# EAGLE library part MCP4822 (library ic)
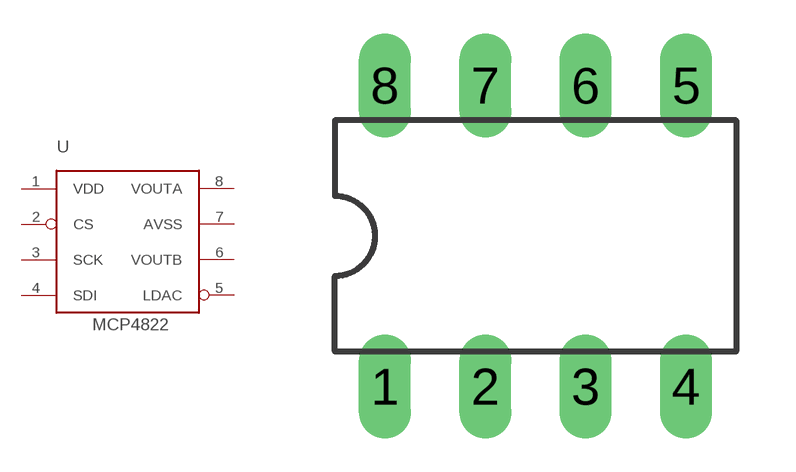
[diagram p7: symbol with the pads of 8PIN; footprint 8PIN]

Designator prefix -

## MCP4822  [8PIN]
1  VDD  pas
2  CS  pas
3  SCK  pas
4  SDI  pas
5  LDAC  pas
6  VOUTB  pas
7  AVSS  pas
8  VOUTA  pas

## Footprint 8PIN (pad centres in mm)
drill 0.813 long: 1 -3.81,-3.81; 2 -1.27,-3.81; 3 1.27,-3.81; 4 3.81,-3.81; 5 3.81,3.81; 6 1.27,3.81; 7 -1.27,3.81; 8 -3.81,3.81